# EAGLE library part MICROBUILDER_HEADER-1X8 (library Adafruit USB Type C)
PIN HEADER
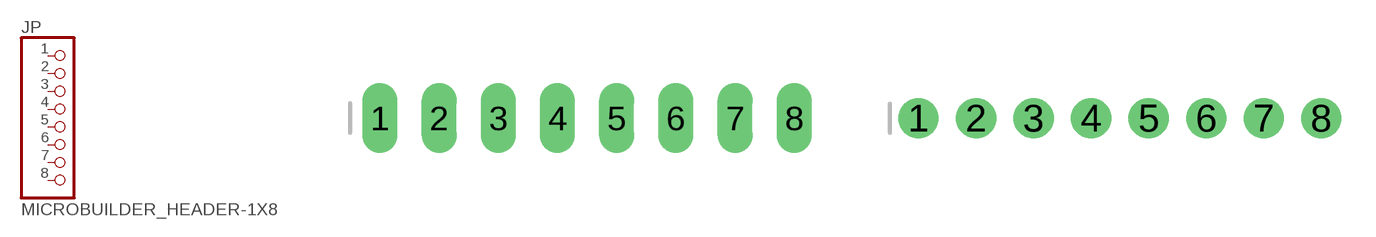
[diagram p0: symbol with the pads of MICROBUILDER_1X08_OVAL; footprints MICROBUILDER_1X08_OVAL, MICROBUILDER_1X08_ROUND_70]

Designator prefix JP

## MICROBUILDER_HEADER-1X8  [MICROBUILDER_1X08_OVAL]
1  1  pas
2  2  pas
3  3  pas
4  4  pas
5  5  pas
6  6  pas
7  7  pas
8  8  pas

## MICROBUILDER_HEADER-1X870MIL  [MICROBUILDER_1X08_ROUND_70]
Pads as for MICROBUILDER_1X08_OVAL

## MICROBUILDER_HEADER-1X876MIL  [MICROBUILDER_1X08_ROUND_76]
Pads as for MICROBUILDER_1X08_OVAL

## MICROBUILDER_HEADER-1X820610  [MICROBUILDER_1X08_SMT_4UCON_20610]
Pads as for MICROBUILDER_1X08_OVAL

## MICROBUILDER_HEADER-1X820610_MP  [MICROBUILDER_1X08_SMT_4UCON_20610_MICRO]
Pads as for MICROBUILDER_1X08_OVAL

## MICROBUILDER_HEADER-1X8OVALWAVE  [MICROBUILDER_1X08_OVALWAVE]
Pads as for MICROBUILDER_1X08_OVAL

## MICROBUILDER_HEADER-1X8ROUND  [MICROBUILDER_1X08_ROUND]
Pads as for MICROBUILDER_1X08_OVAL

## MICROBUILDER_HEADER-1X8SMT  [MICROBUILDER_1X08_SMT_4UCON_06678]
Pads as for MICROBUILDER_1X08_OVAL

## Footprint MICROBUILDER_1X08_OVAL (pad centres in mm)
PIN HEADER
drill 1 long: 1 -8.89,0; 2 -6.35,0; 3 -3.81,0; 4 -1.27,0; 5 1.27,0; 6 3.81,0; 7 6.35,0; 8 8.89,0

## Footprint MICROBUILDER_1X08_ROUND_70 (pad centres in mm)
drill 1 pad 1.778: 1 -8.89,0; 2 -6.35,0; 3 -3.81,0; 4 -1.27,0; 5 1.27,0; 6 3.81,0; 7 6.35,0; 8 8.89,0

## Footprint MICROBUILDER_1X08_ROUND_76 (pad centres in mm)
drill 1 pad 1.93: 1 -8.89,0; 2 -6.35,0; 3 -3.81,0; 4 -1.27,0; 5 1.27,0; 6 3.81,0; 7 6.35,0; 8 8.89,0

## Footprint MICROBUILDER_1X08_SMT_4UCON_20610 (pad centres in mm)
smd 1.02 x 2.75: 1 -8.89,-1.375; 2 -6.35,1.375; 3 -3.81,-1.375; 4 -1.27,1.375; 5 1.27,-1.375; 6 3.81,1.375; 7 6.35,-1.375; 8 8.89,1.375

## Footprint MICROBUILDER_1X08_SMT_4UCON_20610_MICRO (pad centres in mm)
smd 1.02 x 2.1: 1 -8.89,-1.375; 2 -6.35,1.375; 3 -3.81,-1.375; 4 -1.27,1.375; 5 1.27,-1.375; 6 3.81,1.375; 7 6.35,-1.375; 8 8.89,1.375

## Footprint MICROBUILDER_1X08_OVALWAVE (pad centres in mm)
drill 0.8 pad 1.5 long: 1 -8.89,0; 2 -6.35,0; 3 -3.81,0; 4 -1.27,0; 5 1.27,0; 6 3.81,0; 7 6.35,0; 8 8.89,0

## Footprint MICROBUILDER_1X08_ROUND (pad centres in mm)
drill 1 pad 1.676: 1 -8.89,0; 2 -6.35,0; 3 -3.81,0; 4 -1.27,0; 5 1.27,0; 6 3.81,0; 7 6.35,0; 8 8.89,0

## Footprint MICROBUILDER_1X08_SMT_4UCON_06678 (pad centres in mm)
4UCON: 06678
smd 1 x 2.5: 1 -8.89,1.22; 2 -6.35,-1.82; 3 -3.81,1.22; 4 -1.27,-1.82; 5 1.27,1.22; 6 3.81,-1.82; 7 6.35,1.22; 8 8.89,-1.82